# Altium integrated library CropSense_Library.IntLib: 22 symbols
Pins are listed as number, name and electrical type; pins without a type are passive.

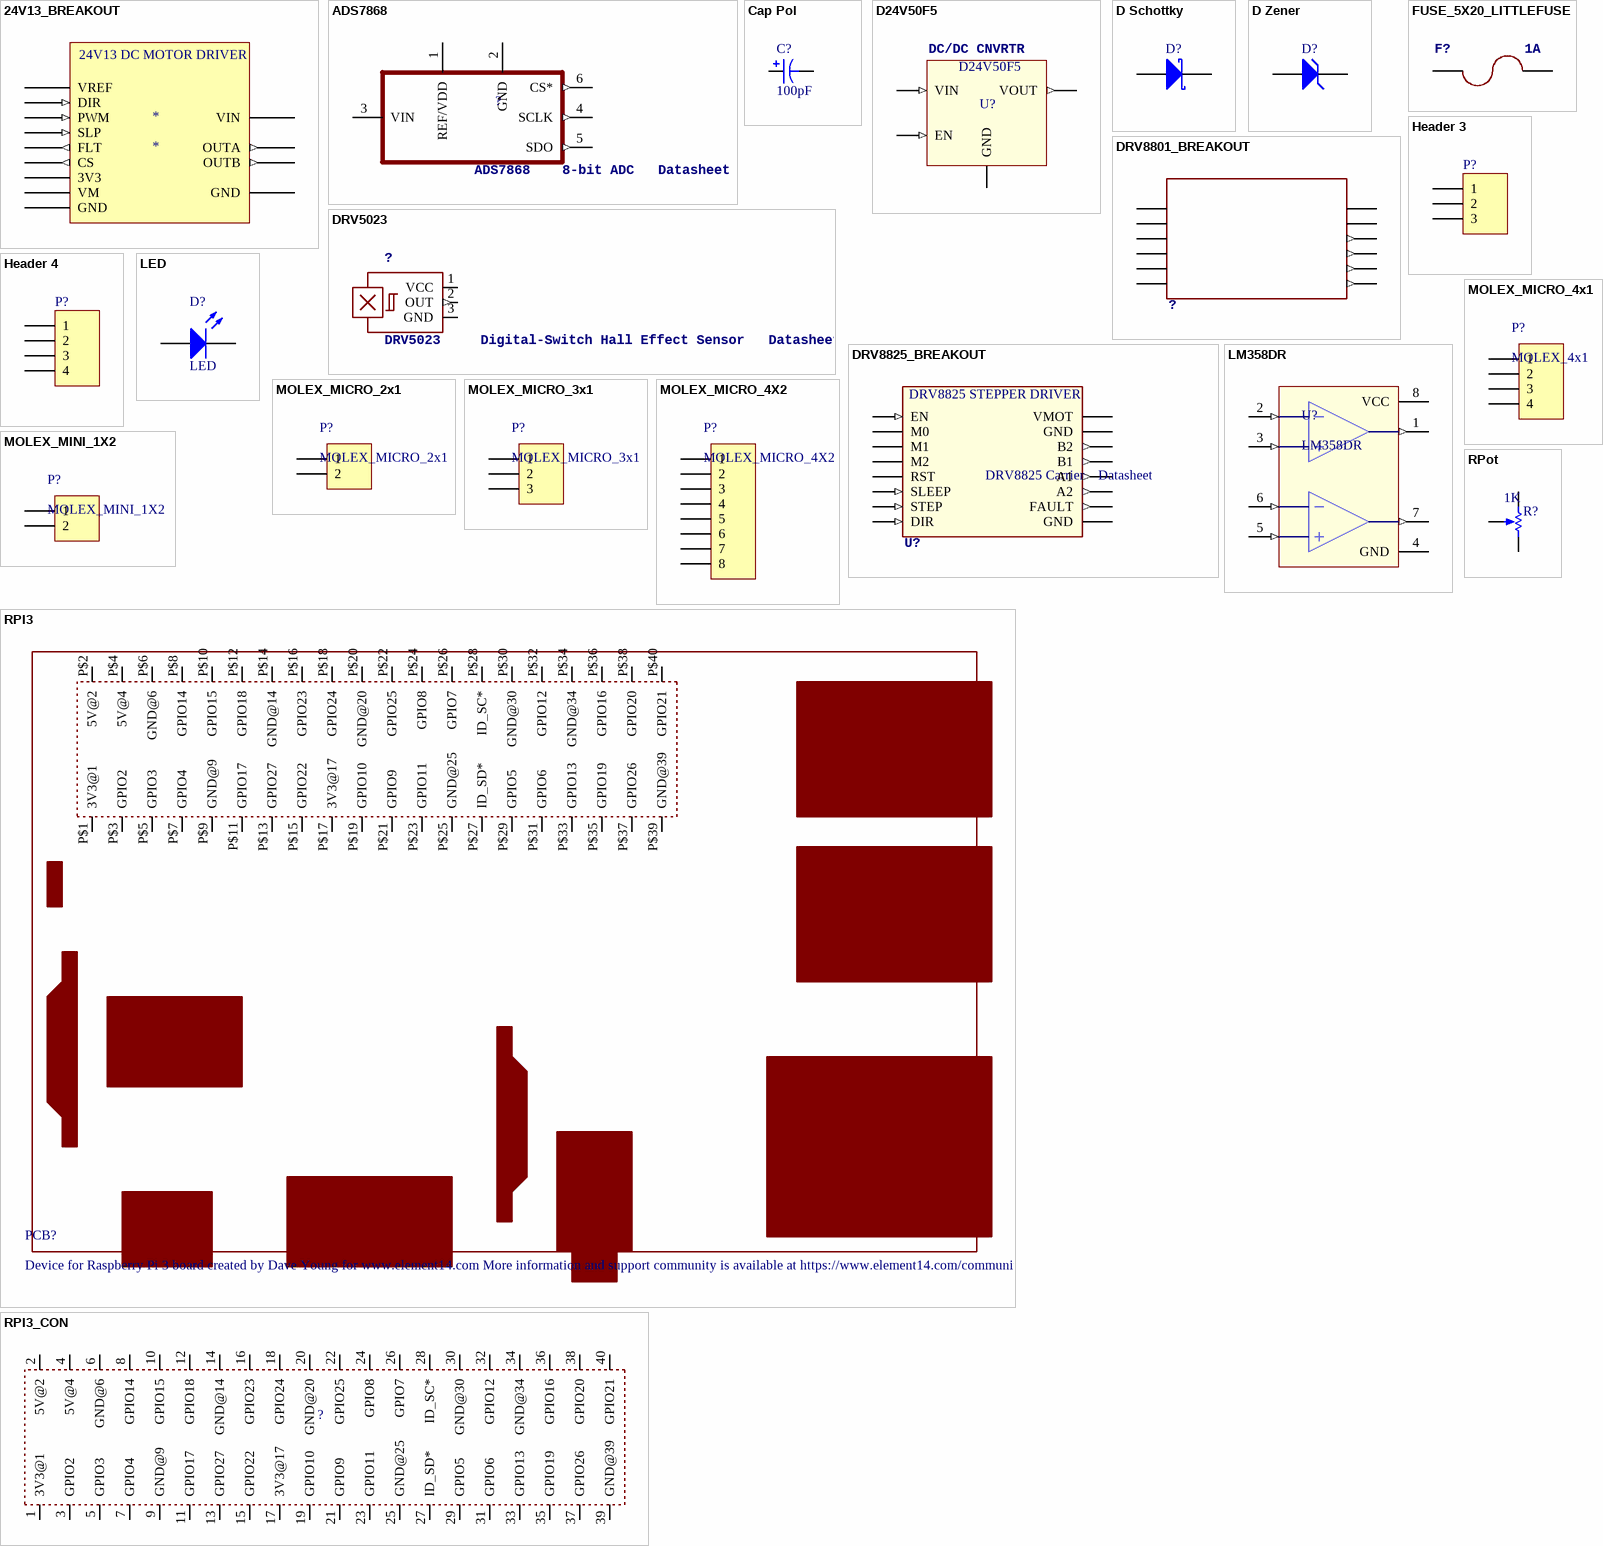
[diagram p0: symbols 24V13_BREAKOUT to RPot]

## 24V13_BREAKOUT
designator *
footprint 24V13_BREAKOUT
pins: 3V3, CS (out), DIR (in), FLT (out), GND, GND (power), OUTA (out), OUTB (out), PWM (in), SLP (in), VIN (power), VM, VREF
text: 24V13 DC MOTOR DRIVER

## ADS7868
designator ?, comment ADS7868    8-bit ADC   Datasheet
footprint SOT-23-6
pins: 1 REF/VDD (power), 2 GND (power), 3 VIN, 4 SCLK (out), 5 SDO (out), 6 CS* (out)

## Cap Pol
designator C?, comment 100pF
Polarized Capacitor (Axial); Published: 8-Jun-2000; LatestRevisionDate: 17-Jul-2002; LatestRevisionNote: Re-released for DXP Platform.; PackageReference: POLAR0.8; Publisher: Altium Limited; PackageDescription: Polarized Capacitor; 2 Leads; Value: 100pF
footprint CAP 8mm
simulation model CAP (Capacitor)
signal-integrity model Cap Pol
footprint CAP 12.5MM
pins: 1, 2
1 alternate drawing of the same symbol

## D24V50F5
designator U?, comment DC/DC CNVRTR
footprint D24VXXFX_BREAKOUT
pins: EN (in), GND, VIN (in), VOUT (out)

## D Schottky
designator D?
Schottky Diode; Published: 8-Jun-2000; LatestRevisionDate: 17-Jul-2002; LatestRevisionNote: Re-released for DXP Platform.; PackageReference: SMB; Publisher: Altium Limited; PackageDescription: DO-214-AA/SMB; 2 C-Bend Leads; Body 5.3 x 3.6 mm, inc. leads (LxW); Code_JEDEC: DO-214-AA
footprint DPAK229P991X238-3N (D-PAK, 3-Pads, Body 6.21x6.73mm (max), IPC Medium Density)
simulation model SKYDIODE (Diode)
signal-integrity model D Schottky
pins: 1 A, 2 K

## D Zener
designator D?
Zener Diode; Published: 8-Jun-2000; LatestRevisionDate: 17-Jul-2002; LatestRevisionNote: Re-released for DXP Platform.; PackageReference: DIODE-0.7; Publisher: Altium Limited; PackageDescription: Diode, Thru-Hole; 2 Leads; 0.7 in Pin Spacing
footprint SOD123 (SODFL, 2-Leads, Body 1.55x3.70mm, IPC Medium Density)
simulation model ZENER (Diode)
signal-integrity model D Zener
pins: 1 A, 2 K

## DRV5023
designator ?, comment DRV5023     Digital-Switch Hall Effect Sensor   Datasheet
footprint SOT-23
pins: 1 VCC (power), 2 OUT (out), 3 GND (power)

## DRV8801_BREAKOUT
designator ?
footprint DRV8801_BREAKOUT
pins: BRAKE, CS (power), DIR, FAULT* (power), GND@0, GND@1 (out), OUT+ (out), OUT- (out), PWM, SLEEP*, VDD, VMM (out)

## DRV8825_BREAKOUT
designator U?, comment DRV8825 Carrier    Datasheet
footprint DRV8825_BREAKOUT
pins: A1 (out), A2 (out), B1 (out), B2 (out), DIR (in), EN (in), FAULT (out), GND (power), GND (power), M0, M1, M2, RST, SLP SLEEP (in), STEP (in), VMOT (power)
text: DRV8825 STEPPER DRIVER

## FUSE_5X20_LITTLEFUSE
designator F?, comment 1A
5mm x 20mm Littlefuse Cartridge; Value: 1A
footprint 5X20MM_LITTLEFUSE_CARTRIDGE
pins: 1, 2

## Header 3
designator P?
Header, 3-Pin; LatestRevisionDate: 17-Jul-2002; LatestRevisionNote: Re-released for DXP Platform.; Publisher: Altium Limited
footprint HDR1X3 (Connector; Header; 3 Position)
signal-integrity model Connector
pins: 1, 2, 3

## Header 4
designator P?
Header, 4-Pin; LatestRevisionDate: 17-Jul-2002; LatestRevisionNote: Re-released for DXP Platform.; Publisher: Altium Limited
footprint HDR1X4 (Connector; Header; 4 Position)
signal-integrity model Connector
pins: 1, 2, 3, 4

## LED
designator D?
Typical INFRARED GaAs LED; Published: 8-Jun-2000; LatestRevisionDate: 08-Jul-2005; LatestRevisionNote: Mech Layer 1 removed.; PackageReference: LED-0; Publisher: Altium Limited; PackageDescription: LED; 2 Leads
footprint 1206 SMD LED (Chip Diode, 2-Leads, Body 3.20x1.60mm, IPC Medium Density)
simulation model LED0 (Diode)
pins: 1 A, 2 K

## LM358DR
designator U?
footprint SOIC127P600X175-8N (SOIC, 8-Leads, Body 4.90x3.90mm, Pitch 1.27mm, IPC Medium Density)
pins: 1 OUT1 (out), 2 IN1- (in), 3 IN1+ (in), 4 GND (power), 5 IN2+ (in), 6 IN2- (in), 7 OUT2 (out), 8 VCC (power)

## MOLEX_MICRO_2x1
designator P?
Molex Micro Fit 2 cct Single Row
footprint MOLEX_MICRO_2X1CCT
pins: 1, 2

## MOLEX_MICRO_3x1
designator P?
Molex Micro Fit 3 cct Single Row
footprint MOLEX_MICRO_3X1CCT
pins: 1, 2, 3

## MOLEX_MICRO_4x1
designator P?, comment MOLEX_4x1
Molex Micro Fit 4 cct Single Row
footprint MOLEX_Micro_4x1CCT
pins: 1, 2, 3, 4

## MOLEX_MICRO_4X2
designator P?
Molex Micro Fit 8 cct Double Row
footprint MOLEX_MICRO_4X2CCT
pins: 1, 2, 3, 4, 5, 6, 7, 8

## MOLEX_MINI_1X2
designator P?
Molex Mini Fit 2 cct Double Row
footprint MOLEX_MINI_1X2CCT
pins: 1, 2

## RPI3
designator PCB?, comment Device for Raspberry Pi 3 board created by Dave Young for www.element14.com More information and support community is available at https://www.element14.com/community/community/raspberry-pi
footprint RPI3
pins: P$1 3V3@1, P$2 5V@2, P$3 GPIO2, P$4 5V@4, P$5 GPIO3, P$6 GND@6, P$7 GPIO4, P$8 GPIO14, P$9 GND@9, P$10 GPIO15, P$11 GPIO17, P$12 GPIO18, P$13 GPIO27, P$14 GND@14, P$15 GPIO22, P$16 GPIO23, P$17 3V3@17, P$18 GPIO24, P$19 GPIO10, P$20 GND@20, P$21 GPIO9, P$22 GPIO25, P$23 GPIO11, P$24 GPIO8, P$25 GND@25, P$26 GPIO7, P$27 ID_SD*, P$28 ID_SC*, P$29 GPIO5, P$30 GND@30, P$31 GPIO6, P$32 GPIO12, P$33 GPIO13, P$34 GND@34, P$35 GPIO19, P$36 GPIO16, P$37 GPIO26, P$38 GPIO20, P$39 GND@39, P$40 GPIO21

## RPI3_CON
designator ?
footprint CONNECTOR
pins: 1 3V3@1, 2 5V@2, 3 GPIO2, 4 5V@4, 5 GPIO3, 6 GND@6, 7 GPIO4, 8 GPIO14, 9 GND@9, 10 GPIO15, 11 GPIO17, 12 GPIO18, 13 GPIO27, 14 GND@14, 15 GPIO22, 16 GPIO23, 17 3V3@17, 18 GPIO24, 19 GPIO10, 20 GND@20, 21 GPIO9, 22 GPIO25, 23 GPIO11, 24 GPIO8, 25 GND@25, 26 GPIO7, 27 ID_SD*, 28 ID_SC*, 29 GPIO5, 30 GND@30, 31 GPIO6, 32 GPIO12, 33 GPIO13, 34 GND@34, 35 GPIO19, 36 GPIO16, 37 GPIO26, 38 GPIO20, 39 GND@39, 40 GPIO21

## RPot
designator R?  value 1K
Potentiometer; Sim Note: Enter the Resistance value and the set point into parameter fields.; Set Position: 0.5; Published: 8-Jun-2000; LatestRevisionDate: 17-Jul-2002; LatestRevisionNote: Re-released for DXP Platform.; PackageReference: VR5; Publisher: Altium Limited; PackageDescription: Variable Resistor, Thru-Hole; 3 Leads
footprint Trimpot TC33
simulation model POT (Potentiometer)
pins: 1 BOT, 2 TAP, 3 TOP
1 alternate drawing of the same symbol